# Altium schematic symbol library kmilo17pet-NSC_Interface.SchLib: 1433 symbols (part 17 of 51)
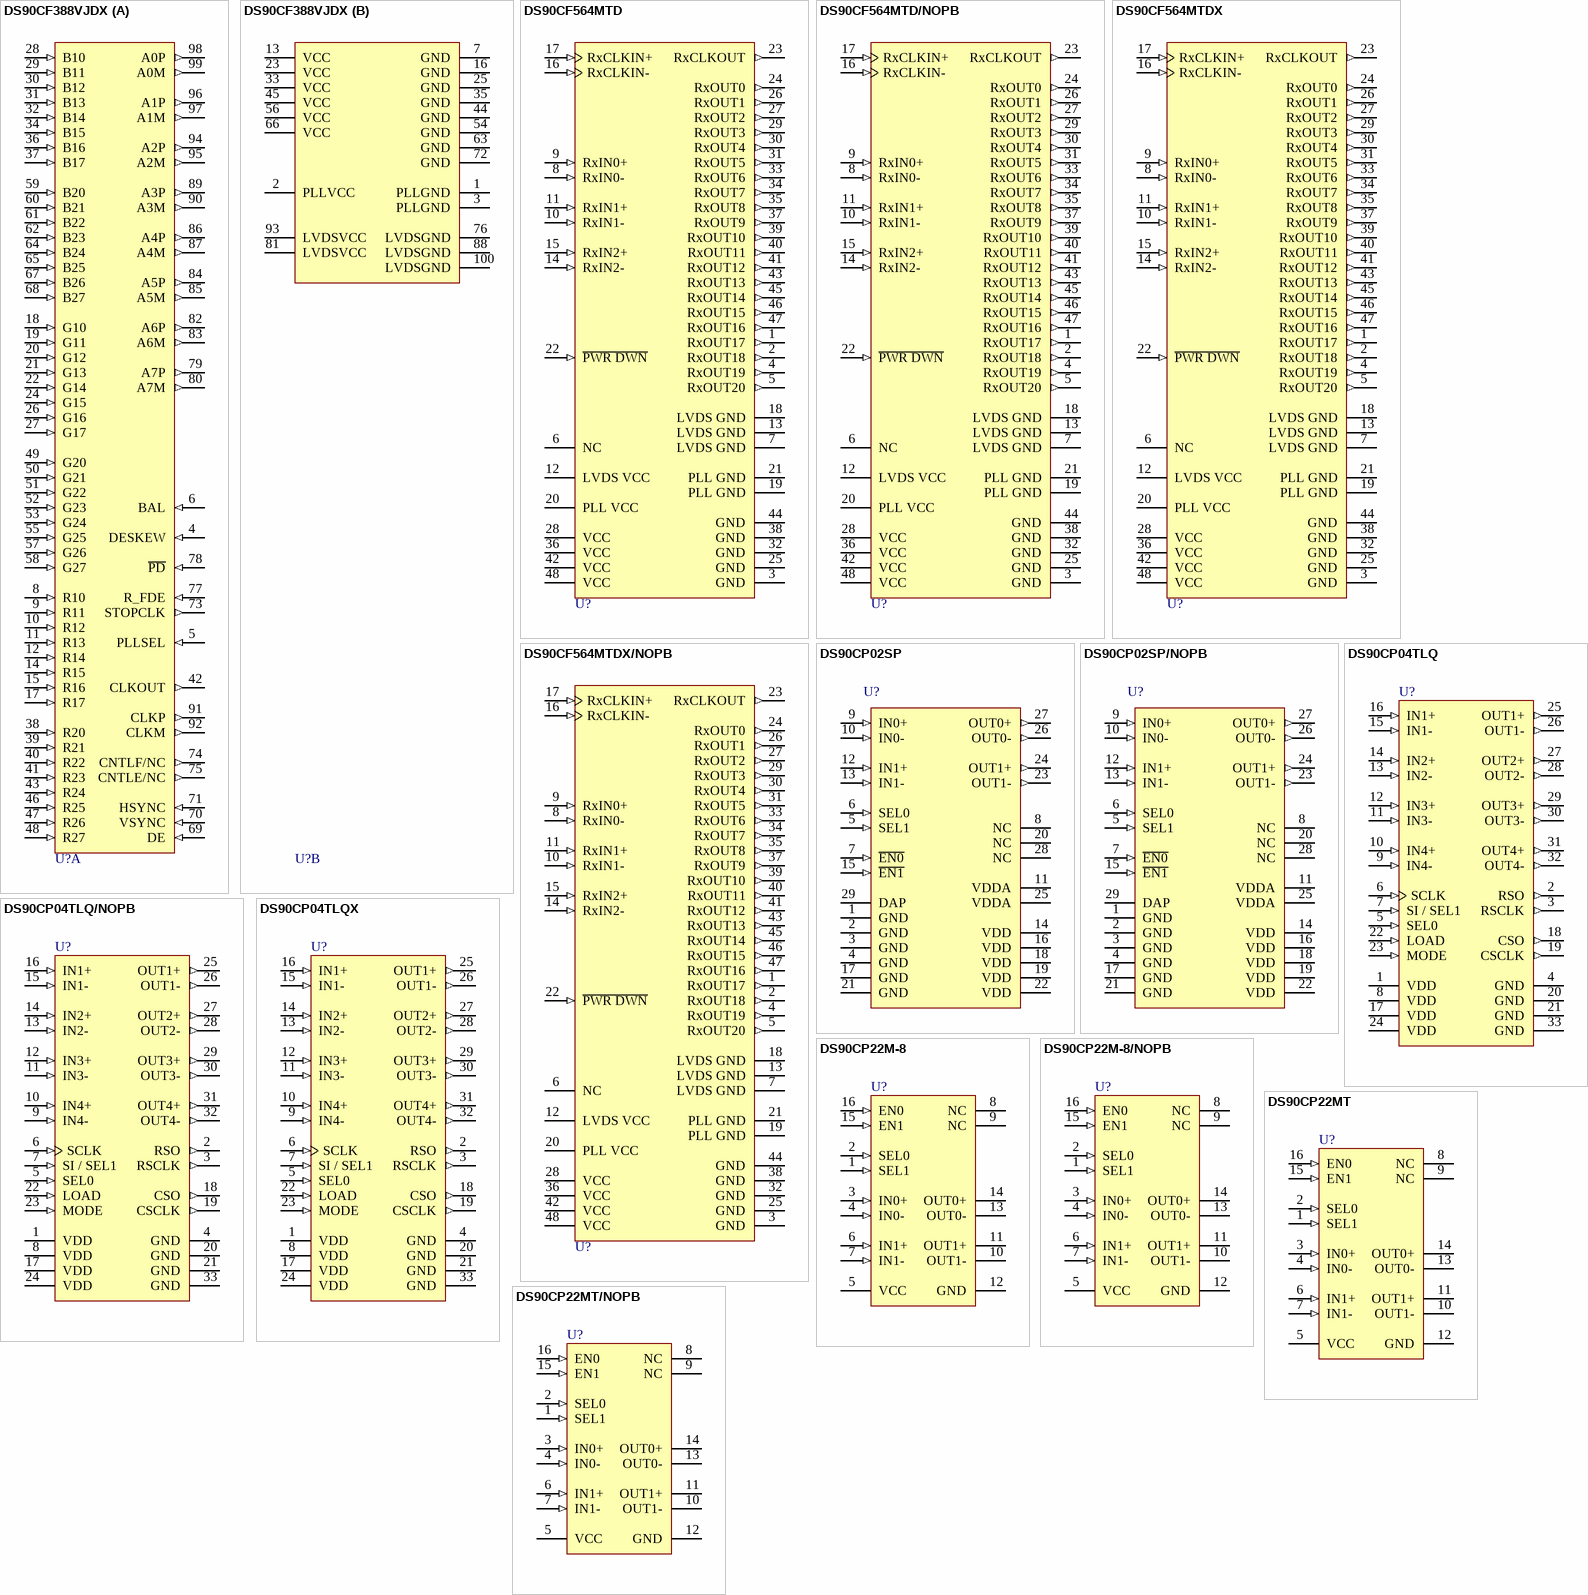
[diagram p140: symbols DS90CF388VJDX to DS90CP22MT/NOPB]

## DS90CP04TLQ/NOPB
designator U?
1.5 Gbps 4x4 LVDS Crosspoint Switch, 32-pin LLP, Pb-Free; PartNumber: DS90CP04TLQ/NOPB; Manufacturer: National Semiconductor; PackageTopMarking: NS*UZXYTTE#*90CP04T; PowerWise: N; CompType: Interface IC; High-Reliability: Y; DatasheetVersion: Dec-2007; PackageVersion: revA, Feb-2001; PackageReference: LQA32A; PackageDescription: LLP, Plastic, Quad, 6 x 6 x 0.8mm Body, 32 Lead, 0.5mm Pitch; RoHS: Y; PinCount: 32; ComponentLink1Description: Manufacturer URL; ComponentLink1URL: http://www.national.com/; ComponentLink2Description: DS90CP04 Datasheet; ComponentLink2URL: http://www.national.com/ds/DS/DS90CP04.pdf; ComponentLink3Description: DS90CP04 Web Page; ComponentLink3URL: http://www.national.com/pf/DS/DS90CP04.html; ComponentLink4Description: LQA32A Package Page; ComponentLink4URL: http://www.national.com/packaging/folders/lqa32a.html
footprint LQA32A (PQFN, 32-Leads, Body 6x6mm, Pitch 0.5mm, Thermal Pad 4.3x4.3mm, NSC Recommended)
pins: 1 VDD (power), 2 RSO (out), 3 RSCLK (out), 4 GND (power), 5 SEL0 (in), 6 SCLK (in), 7 SI / SEL1 (in), 8 VDD (power), 9 IN4- (in), 10 IN4+ (in), 11 IN3- (in), 12 IN3+ (in), 13 IN2- (in), 14 IN2+ (in), 15 IN1- (in), 16 IN1+ (in), 17 VDD (power), 18 CSO (out), 19 CSCLK (out), 20 GND (power), 21 GND (power), 22 LOAD (in), 23 MODE (in), 24 VDD (power), 25 OUT1+ (out), 26 OUT1- (out), 27 OUT2+ (out), 28 OUT2- (out), 29 OUT3+ (out), 30 OUT3- (out), 31 OUT4+ (out), 32 OUT4- (out), 33 GND (power)

## DS90CP04TLQX
designator U?
1.5 Gbps 4x4 LVDS Crosspoint Switch, 32-pin LLP; PartNumber: DS90CP04TLQX; Manufacturer: National Semiconductor; PackageTopMarking: NS*UZXYTTE#*90CP04T; PowerWise: N; CompType: Interface IC; High-Reliability: Y; DatasheetVersion: Dec-2007; PackageVersion: revA, Feb-2001; PackageReference: LQA32A; PackageDescription: LLP, Plastic, Quad, 6 x 6 x 0.8mm Body, 32 Lead, 0.5mm Pitch; RoHS: N; PinCount: 32; ComponentLink1Description: Manufacturer URL; ComponentLink1URL: http://www.national.com/; ComponentLink2Description: DS90CP04 Datasheet; ComponentLink2URL: http://www.national.com/ds/DS/DS90CP04.pdf; ComponentLink3Description: DS90CP04 Web Page; ComponentLink3URL: http://www.national.com/pf/DS/DS90CP04.html; ComponentLink4Description: LQA32A Package Page; ComponentLink4URL: http://www.national.com/packaging/folders/lqa32a.html
footprint LQA32A (PQFN, 32-Leads, Body 6x6mm, Pitch 0.5mm, Thermal Pad 4.3x4.3mm, NSC Recommended)
pins: 1 VDD (power), 2 RSO (out), 3 RSCLK (out), 4 GND (power), 5 SEL0 (in), 6 SCLK (in), 7 SI / SEL1 (in), 8 VDD (power), 9 IN4- (in), 10 IN4+ (in), 11 IN3- (in), 12 IN3+ (in), 13 IN2- (in), 14 IN2+ (in), 15 IN1- (in), 16 IN1+ (in), 17 VDD (power), 18 CSO (out), 19 CSCLK (out), 20 GND (power), 21 GND (power), 22 LOAD (in), 23 MODE (in), 24 VDD (power), 25 OUT1+ (out), 26 OUT1- (out), 27 OUT2+ (out), 28 OUT2- (out), 29 OUT3+ (out), 30 OUT3- (out), 31 OUT4+ (out), 32 OUT4- (out), 33 GND (power)

## DS90CP22M-8
designator U?
800 Mbps 2x2 LVDS Crosspoint Switch, 16-pin Narrow SOIC; PartNumber: DS90CP22M-8; Manufacturer: National Semiconductor; PackageTopMarking: NSUZXYTTE#*DS90CP22M*-8; PowerWise: N; CompType: Interface IC; High-Reliability: Y; DatasheetVersion: Dec-2007; PackageVersion: revJ, Aug-1995; PackageReference: M16A; PackageDescription: Molded Package, SO, .150in Wide, 16 Lead; RoHS: N; PinCount: 16; Code_JEDEC: MS-012-AC; Code_IPC: SOIC127P600-16; ComponentLink1Description: Manufacturer URL; ComponentLink1URL: http://www.national.com/; ComponentLink2Description: DS90CP22 Datasheet; ComponentLink2URL: http://www.national.com/ds/DS/DS90CP22.pdf; ComponentLink3Description: DS90CP22 Web Page; ComponentLink3URL: http://www.national.com/pf/DS/DS90CP22.html; ComponentLink4Description: M16A Package Page; ComponentLink4URL: http://www.national.com/packaging/folders/m16a.html
footprint M16A_N (SOIC, 16-Leads, Body 9.9x3.9mm, Pitch 1.27mm, IPC Medium Density)
footprint M16A_L (SOIC, 16-Leads, Body 9.9x3.9mm, Pitch 1.27mm, IPC High Density)
footprint M16A_M (SOIC, 16-Leads, Body 9.9x3.9mm, Pitch 1.27mm, IPC Low Density)
pins: 1 SEL1 (in), 2 SEL0 (in), 3 IN0+ (in), 4 IN0- (in), 5 VCC (power), 6 IN1+ (in), 7 IN1- (in), 8 NC, 9 NC, 10 OUT1- (hiz), 11 OUT1+ (hiz), 12 GND (power), 13 OUT0- (hiz), 14 OUT0+ (hiz), 15 EN1 (in), 16 EN0 (in)

## DS90CP22M-8/NOPB
designator U?
800 Mbps 2x2 LVDS Crosspoint Switch, 16-pin Narrow SOIC, Pb-Free; PartNumber: DS90CP22M-8/NOPB; Manufacturer: National Semiconductor; PackageTopMarking: NSUZXYTTE#*DS90CP22M*-8; PowerWise: N; CompType: Interface IC; High-Reliability: Y; DatasheetVersion: Dec-2007; PackageVersion: revJ, Aug-1995; PackageReference: M16A; PackageDescription: Molded Package, SO, .150in Wide, 16 Lead; RoHS: Y; PinCount: 16; Code_JEDEC: MS-012-AC; Code_IPC: SOIC127P600-16; ComponentLink1Description: Manufacturer URL; ComponentLink1URL: http://www.national.com/; ComponentLink2Description: DS90CP22 Datasheet; ComponentLink2URL: http://www.national.com/ds/DS/DS90CP22.pdf; ComponentLink3Description: DS90CP22 Web Page; ComponentLink3URL: http://www.national.com/pf/DS/DS90CP22.html; ComponentLink4Description: M16A Package Page; ComponentLink4URL: http://www.national.com/packaging/folders/m16a.html
footprint M16A_N (SOIC, 16-Leads, Body 9.9x3.9mm, Pitch 1.27mm, IPC Medium Density)
footprint M16A_L (SOIC, 16-Leads, Body 9.9x3.9mm, Pitch 1.27mm, IPC High Density)
footprint M16A_M (SOIC, 16-Leads, Body 9.9x3.9mm, Pitch 1.27mm, IPC Low Density)
pins: 1 SEL1 (in), 2 SEL0 (in), 3 IN0+ (in), 4 IN0- (in), 5 VCC (power), 6 IN1+ (in), 7 IN1- (in), 8 NC, 9 NC, 10 OUT1- (hiz), 11 OUT1+ (hiz), 12 GND (power), 13 OUT0- (hiz), 14 OUT0+ (hiz), 15 EN1 (in), 16 EN0 (in)

## DS90CP22MT
designator U?
800 Mbps 2x2 LVDS Crosspoint Switch, 16-pin TSSOP; PartNumber: DS90CP22MT; Manufacturer: National Semiconductor; PackageTopMarking: NSZXYTT*DS90CP*22MT; PowerWise: N; CompType: Interface IC; High-Reliability: Y; DatasheetVersion: Dec-2007; PackageVersion: revD, Jun-2003; PackageReference: MTC16; PackageDescription: Molded TSSOP, Jedec, 5 x 4.4 x 0.9mm Body, 16 Lead, 0.65mm Pitch; RoHS: N; PinCount: 16; Code_JEDEC: MO-153-AB; ComponentLink1Description: Manufacturer URL; ComponentLink1URL: http://www.national.com/; ComponentLink2Description: DS90CP22 Datasheet; ComponentLink2URL: http://www.national.com/ds/DS/DS90CP22.pdf; ComponentLink3Description: DS90CP22 Web Page; ComponentLink3URL: http://www.national.com/pf/DS/DS90CP22.html; ComponentLink4Description: MTC16 Package Page; ComponentLink4URL: http://www.national.com/packaging/folders/mtc16.html
footprint MTC16_N (TSOP, 16-Leads, Body 5x4.4mm, Pitch 0.65mm, IPC Medium Density)
footprint MTC16_L (TSOP, 16-Leads, Body 5x4.4mm, Pitch 0.65mm, IPC High Density)
footprint MTC16_M (TSOP, 16-Leads, Body 5x4.4mm, Pitch 0.65mm, IPC Low Density)
pins: 1 SEL1 (in), 2 SEL0 (in), 3 IN0+ (in), 4 IN0- (in), 5 VCC (power), 6 IN1+ (in), 7 IN1- (in), 8 NC, 9 NC, 10 OUT1- (hiz), 11 OUT1+ (hiz), 12 GND (power), 13 OUT0- (hiz), 14 OUT0+ (hiz), 15 EN1 (in), 16 EN0 (in)

## DS90CP22MT/NOPB
designator U?
800 Mbps 2x2 LVDS Crosspoint Switch, 16-pin TSSOP, Pb-Free; PartNumber: DS90CP22MT/NOPB; Manufacturer: National Semiconductor; PackageTopMarking: NSZXYTT*DS90CP*22MT; PowerWise: N; CompType: Interface IC; High-Reliability: Y; DatasheetVersion: Dec-2007; PackageVersion: revD, Jun-2003; PackageReference: MTC16; PackageDescription: Molded TSSOP, Jedec, 5 x 4.4 x 0.9mm Body, 16 Lead, 0.65mm Pitch; RoHS: Y; PinCount: 16; Code_JEDEC: MO-153-AB; ComponentLink1Description: Manufacturer URL; ComponentLink1URL: http://www.national.com/; ComponentLink2Description: DS90CP22 Datasheet; ComponentLink2URL: http://www.national.com/ds/DS/DS90CP22.pdf; ComponentLink3Description: DS90CP22 Web Page; ComponentLink3URL: http://www.national.com/pf/DS/DS90CP22.html; ComponentLink4Description: MTC16 Package Page; ComponentLink4URL: http://www.national.com/packaging/folders/mtc16.html
footprint MTC16_N (TSOP, 16-Leads, Body 5x4.4mm, Pitch 0.65mm, IPC Medium Density)
footprint MTC16_L (TSOP, 16-Leads, Body 5x4.4mm, Pitch 0.65mm, IPC High Density)
footprint MTC16_M (TSOP, 16-Leads, Body 5x4.4mm, Pitch 0.65mm, IPC Low Density)
pins: 1 SEL1 (in), 2 SEL0 (in), 3 IN0+ (in), 4 IN0- (in), 5 VCC (power), 6 IN1+ (in), 7 IN1- (in), 8 NC, 9 NC, 10 OUT1- (hiz), 11 OUT1+ (hiz), 12 GND (power), 13 OUT0- (hiz), 14 OUT0+ (hiz), 15 EN1 (in), 16 EN0 (in)

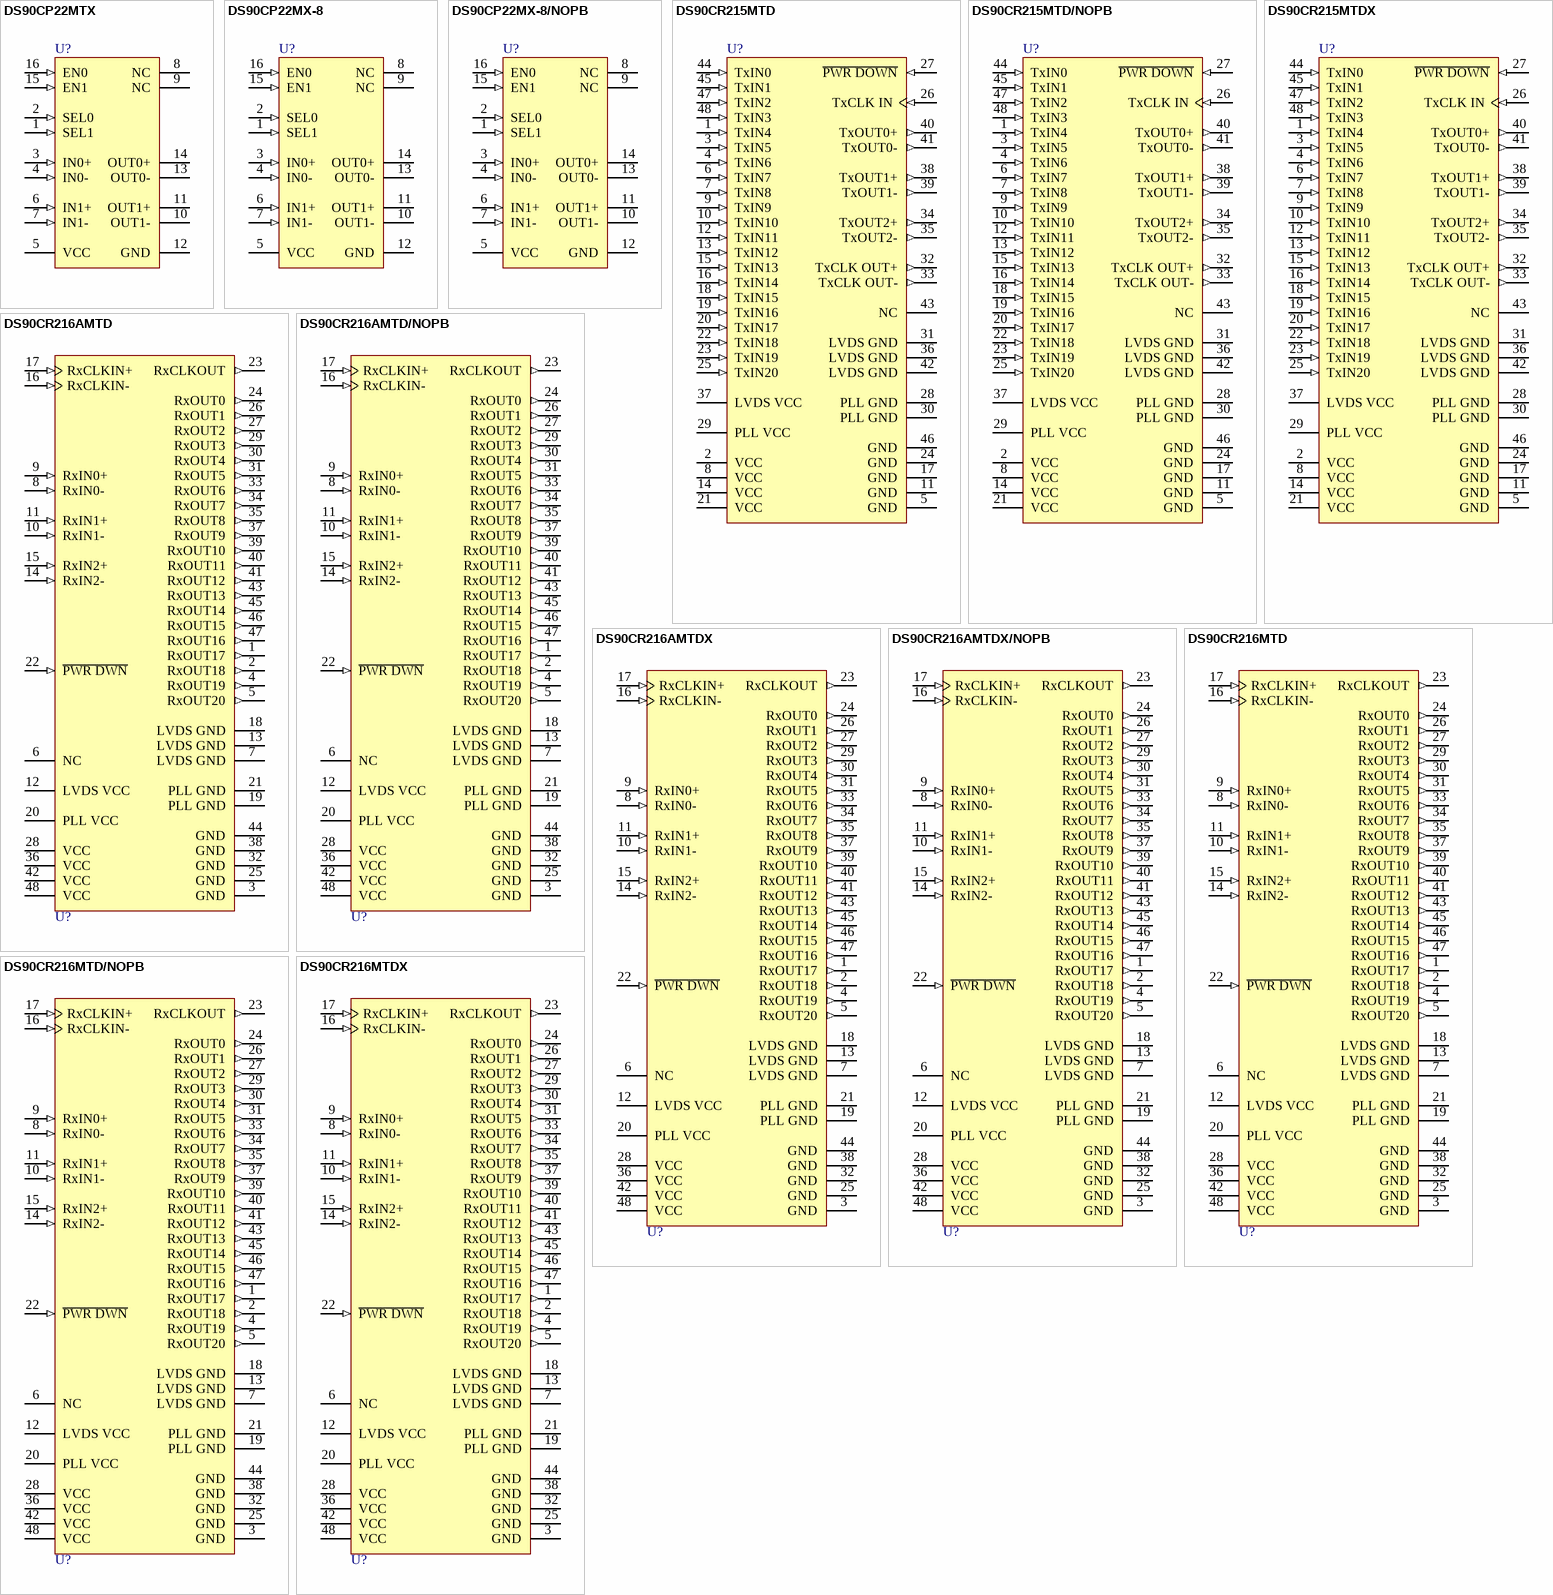
[diagram p44: symbols DS90CP22MTX to DS90CR216MTDX]

## DS90CP22MTX
designator U?
800 Mbps 2x2 LVDS Crosspoint Switch, 16-pin TSSOP; PartNumber: DS90CP22MTX; Manufacturer: National Semiconductor; PackageTopMarking: NSZXYTT*DS90CP*22MT; PowerWise: N; CompType: Interface IC; High-Reliability: Y; DatasheetVersion: Dec-2007; PackageVersion: revD, Jun-2003; PackageReference: MTC16; PackageDescription: Molded TSSOP, Jedec, 5 x 4.4 x 0.9mm Body, 16 Lead, 0.65mm Pitch; RoHS: N; PinCount: 16; Code_JEDEC: MO-153-AB; ComponentLink1Description: Manufacturer URL; ComponentLink1URL: http://www.national.com/; ComponentLink2Description: DS90CP22 Datasheet; ComponentLink2URL: http://www.national.com/ds/DS/DS90CP22.pdf; ComponentLink3Description: DS90CP22 Web Page; ComponentLink3URL: http://www.national.com/pf/DS/DS90CP22.html; ComponentLink4Description: MTC16 Package Page; ComponentLink4URL: http://www.national.com/packaging/folders/mtc16.html
footprint MTC16_N (TSOP, 16-Leads, Body 5x4.4mm, Pitch 0.65mm, IPC Medium Density)
footprint MTC16_L (TSOP, 16-Leads, Body 5x4.4mm, Pitch 0.65mm, IPC High Density)
footprint MTC16_M (TSOP, 16-Leads, Body 5x4.4mm, Pitch 0.65mm, IPC Low Density)
pins: 1 SEL1 (in), 2 SEL0 (in), 3 IN0+ (in), 4 IN0- (in), 5 VCC (power), 6 IN1+ (in), 7 IN1- (in), 8 NC, 9 NC, 10 OUT1- (hiz), 11 OUT1+ (hiz), 12 GND (power), 13 OUT0- (hiz), 14 OUT0+ (hiz), 15 EN1 (in), 16 EN0 (in)

## DS90CP22MX-8
designator U?
800 Mbps 2x2 LVDS Crosspoint Switch, 16-pin Narrow SOIC; PartNumber: DS90CP22MX-8; Manufacturer: National Semiconductor; PackageTopMarking: NSUZXYTTE#*DS90CP22M*-8; PowerWise: N; CompType: Interface IC; High-Reliability: Y; DatasheetVersion: Dec-2007; PackageVersion: revJ, Aug-1995; PackageReference: M16A; PackageDescription: Molded Package, SO, .150in Wide, 16 Lead; RoHS: N; PinCount: 16; Code_JEDEC: MS-012-AC; Code_IPC: SOIC127P600-16; ComponentLink1Description: Manufacturer URL; ComponentLink1URL: http://www.national.com/; ComponentLink2Description: DS90CP22 Datasheet; ComponentLink2URL: http://www.national.com/ds/DS/DS90CP22.pdf; ComponentLink3Description: DS90CP22 Web Page; ComponentLink3URL: http://www.national.com/pf/DS/DS90CP22.html; ComponentLink4Description: M16A Package Page; ComponentLink4URL: http://www.national.com/packaging/folders/m16a.html
footprint M16A_N (SOIC, 16-Leads, Body 9.9x3.9mm, Pitch 1.27mm, IPC Medium Density)
footprint M16A_L (SOIC, 16-Leads, Body 9.9x3.9mm, Pitch 1.27mm, IPC High Density)
footprint M16A_M (SOIC, 16-Leads, Body 9.9x3.9mm, Pitch 1.27mm, IPC Low Density)
pins: 1 SEL1 (in), 2 SEL0 (in), 3 IN0+ (in), 4 IN0- (in), 5 VCC (power), 6 IN1+ (in), 7 IN1- (in), 8 NC, 9 NC, 10 OUT1- (hiz), 11 OUT1+ (hiz), 12 GND (power), 13 OUT0- (hiz), 14 OUT0+ (hiz), 15 EN1 (in), 16 EN0 (in)

## DS90CP22MX-8/NOPB
designator U?
800 Mbps 2x2 LVDS Crosspoint Switch, 16-pin Narrow SOIC, Pb-Free; PartNumber: DS90CP22MX-8/NOPB; Manufacturer: National Semiconductor; PackageTopMarking: NSUZXYTTE#*DS90CP22M*-8; PowerWise: N; CompType: Interface IC; High-Reliability: Y; DatasheetVersion: Dec-2007; PackageVersion: revJ, Aug-1995; PackageReference: M16A; PackageDescription: Molded Package, SO, .150in Wide, 16 Lead; RoHS: Y; PinCount: 16; Code_JEDEC: MS-012-AC; Code_IPC: SOIC127P600-16; ComponentLink1Description: Manufacturer URL; ComponentLink1URL: http://www.national.com/; ComponentLink2Description: DS90CP22 Datasheet; ComponentLink2URL: http://www.national.com/ds/DS/DS90CP22.pdf; ComponentLink3Description: DS90CP22 Web Page; ComponentLink3URL: http://www.national.com/pf/DS/DS90CP22.html; ComponentLink4Description: M16A Package Page; ComponentLink4URL: http://www.national.com/packaging/folders/m16a.html
footprint M16A_N (SOIC, 16-Leads, Body 9.9x3.9mm, Pitch 1.27mm, IPC Medium Density)
footprint M16A_L (SOIC, 16-Leads, Body 9.9x3.9mm, Pitch 1.27mm, IPC High Density)
footprint M16A_M (SOIC, 16-Leads, Body 9.9x3.9mm, Pitch 1.27mm, IPC Low Density)
pins: 1 SEL1 (in), 2 SEL0 (in), 3 IN0+ (in), 4 IN0- (in), 5 VCC (power), 6 IN1+ (in), 7 IN1- (in), 8 NC, 9 NC, 10 OUT1- (hiz), 11 OUT1+ (hiz), 12 GND (power), 13 OUT0- (hiz), 14 OUT0+ (hiz), 15 EN1 (in), 16 EN0 (in)

## DS90CR215MTD
designator U?
+3.3V Rising Edge Data Strobe LVDS 21-Bit Channel Link - 66 MHz, 48-pin TSSOP; PartNumber: DS90CR215MTD; Manufacturer: National Semiconductor; PackageTopMarking: NS2ZXYTTE#*DS90CR215MTD*BBBBB; PowerWise: N; CompType: Interface IC; High-Reliability: Y; DatasheetVersion: Jun-2009; PackageVersion: revE, Apr-2003; PackageReference: MTD48; PackageDescription: Molded TSSOP, Jedec, 12.5 x 6.1 x 0.9mm Body, 48 Lead, 0.50mm Pitch; RoHS: N; PinCount: 48; Code_JEDEC: MO-153-ED; ComponentLink1Description: Manufacturer URL; ComponentLink1URL: http://www.national.com/; ComponentLink2Description: DS90CR215 Datasheet; ComponentLink2URL: http://www.national.com/ds/DS/DS90CR215.pdf; ComponentLink3Description: DS90CR215 Web Page; ComponentLink3URL: http://www.national.com/pf/DS/DS90CR215.html; ComponentLink4Description: MTD48 Package Page; ComponentLink4URL: http://www.national.com/packaging/folders/mtd48.html
footprint MTD48_N (TSSOP, 48-Leads, Body 12.5x6.1mm, Pitch 0.5mm, IPC Medium Density)
footprint MTD48_L (TSSOP, 48-Leads, Body 12.5x6.1mm, Pitch 0.5mm, IPC High Density)
footprint MTD48_M (TSSOP, 48-Leads, Body 12.5x6.1mm, Pitch 0.5mm, IPC Low Density)
pins: 1 TxIN4 (in), 2 VCC (power), 3 TxIN5 (in), 4 TxIN6 (in), 5 GND (power), 6 TxIN7 (in), 7 TxIN8 (in), 8 VCC (power), 9 TxIN9 (in), 10 TxIN10 (in), 11 GND (power), 12 TxIN11 (in), 13 TxIN12 (in), 14 VCC (power), 15 TxIN13 (in), 16 TxIN14 (in), 17 GND (power), 18 TxIN15 (in), 19 TxIN16 (in), 20 TxIN17 (in), 21 VCC (power), 22 TxIN18 (in), 23 TxIN19 (in), 24 GND (power), 25 TxIN20 (in), 26 TxCLK IN (in), 27 ~{PWR DOWN} (in), 28 PLL GND (power), 29 PLL VCC (power), 30 PLL GND (power), 31 LVDS GND (power), 32 TxCLK OUT+ (out), 33 TxCLK OUT- (out), 34 TxOUT2+ (out), 35 TxOUT2- (out), 36 LVDS GND (power), 37 LVDS VCC (power), 38 TxOUT1+ (out), 39 TxOUT1- (out), 40 TxOUT0+ (out), 41 TxOUT0- (out), 42 LVDS GND (power), 43 NC, 44 TxIN0 (in), 45 TxIN1 (in), 46 GND (power), 47 TxIN2 (in), 48 TxIN3 (in)

## DS90CR215MTD/NOPB
designator U?
+3.3V Rising Edge Data Strobe LVDS 21-Bit Channel Link - 66 MHz, 48-pin TSSOP, Pb-Free; PartNumber: DS90CR215MTD/NOPB; Manufacturer: National Semiconductor; PackageTopMarking: NS2ZXYTTE#*DS90CR215MTD*BBBBB; PowerWise: N; CompType: Interface IC; High-Reliability: Y; DatasheetVersion: Jun-2009; PackageVersion: revE, Apr-2003; PackageReference: MTD48; PackageDescription: Molded TSSOP, Jedec, 12.5 x 6.1 x 0.9mm Body, 48 Lead, 0.50mm Pitch; RoHS: Y; PinCount: 48; Code_JEDEC: MO-153-ED; ComponentLink1Description: Manufacturer URL; ComponentLink1URL: http://www.national.com/; ComponentLink2Description: DS90CR215 Datasheet; ComponentLink2URL: http://www.national.com/ds/DS/DS90CR215.pdf; ComponentLink3Description: DS90CR215 Web Page; ComponentLink3URL: http://www.national.com/pf/DS/DS90CR215.html; ComponentLink4Description: MTD48 Package Page; ComponentLink4URL: http://www.national.com/packaging/folders/mtd48.html
footprint MTD48_N (TSSOP, 48-Leads, Body 12.5x6.1mm, Pitch 0.5mm, IPC Medium Density)
footprint MTD48_L (TSSOP, 48-Leads, Body 12.5x6.1mm, Pitch 0.5mm, IPC High Density)
footprint MTD48_M (TSSOP, 48-Leads, Body 12.5x6.1mm, Pitch 0.5mm, IPC Low Density)
pins: 1 TxIN4 (in), 2 VCC (power), 3 TxIN5 (in), 4 TxIN6 (in), 5 GND (power), 6 TxIN7 (in), 7 TxIN8 (in), 8 VCC (power), 9 TxIN9 (in), 10 TxIN10 (in), 11 GND (power), 12 TxIN11 (in), 13 TxIN12 (in), 14 VCC (power), 15 TxIN13 (in), 16 TxIN14 (in), 17 GND (power), 18 TxIN15 (in), 19 TxIN16 (in), 20 TxIN17 (in), 21 VCC (power), 22 TxIN18 (in), 23 TxIN19 (in), 24 GND (power), 25 TxIN20 (in), 26 TxCLK IN (in), 27 ~{PWR DOWN} (in), 28 PLL GND (power), 29 PLL VCC (power), 30 PLL GND (power), 31 LVDS GND (power), 32 TxCLK OUT+ (out), 33 TxCLK OUT- (out), 34 TxOUT2+ (out), 35 TxOUT2- (out), 36 LVDS GND (power), 37 LVDS VCC (power), 38 TxOUT1+ (out), 39 TxOUT1- (out), 40 TxOUT0+ (out), 41 TxOUT0- (out), 42 LVDS GND (power), 43 NC, 44 TxIN0 (in), 45 TxIN1 (in), 46 GND (power), 47 TxIN2 (in), 48 TxIN3 (in)

## DS90CR215MTDX
designator U?
+3.3V Rising Edge Data Strobe LVDS 21-Bit Channel Link - 66 MHz, 48-pin TSSOP; PartNumber: DS90CR215MTDX; Manufacturer: National Semiconductor; PackageTopMarking: NS2ZXYTTE#*DS90CR215MTD*BBBBB; PowerWise: N; CompType: Interface IC; High-Reliability: Y; DatasheetVersion: Jun-2009; PackageVersion: revE, Apr-2003; PackageReference: MTD48; PackageDescription: Molded TSSOP, Jedec, 12.5 x 6.1 x 0.9mm Body, 48 Lead, 0.50mm Pitch; RoHS: N; PinCount: 48; Code_JEDEC: MO-153-ED; ComponentLink1Description: Manufacturer URL; ComponentLink1URL: http://www.national.com/; ComponentLink2Description: DS90CR215 Datasheet; ComponentLink2URL: http://www.national.com/ds/DS/DS90CR215.pdf; ComponentLink3Description: DS90CR215 Web Page; ComponentLink3URL: http://www.national.com/pf/DS/DS90CR215.html; ComponentLink4Description: MTD48 Package Page; ComponentLink4URL: http://www.national.com/packaging/folders/mtd48.html
footprint MTD48_N (TSSOP, 48-Leads, Body 12.5x6.1mm, Pitch 0.5mm, IPC Medium Density)
footprint MTD48_L (TSSOP, 48-Leads, Body 12.5x6.1mm, Pitch 0.5mm, IPC High Density)
footprint MTD48_M (TSSOP, 48-Leads, Body 12.5x6.1mm, Pitch 0.5mm, IPC Low Density)
pins: 1 TxIN4 (in), 2 VCC (power), 3 TxIN5 (in), 4 TxIN6 (in), 5 GND (power), 6 TxIN7 (in), 7 TxIN8 (in), 8 VCC (power), 9 TxIN9 (in), 10 TxIN10 (in), 11 GND (power), 12 TxIN11 (in), 13 TxIN12 (in), 14 VCC (power), 15 TxIN13 (in), 16 TxIN14 (in), 17 GND (power), 18 TxIN15 (in), 19 TxIN16 (in), 20 TxIN17 (in), 21 VCC (power), 22 TxIN18 (in), 23 TxIN19 (in), 24 GND (power), 25 TxIN20 (in), 26 TxCLK IN (in), 27 ~{PWR DOWN} (in), 28 PLL GND (power), 29 PLL VCC (power), 30 PLL GND (power), 31 LVDS GND (power), 32 TxCLK OUT+ (out), 33 TxCLK OUT- (out), 34 TxOUT2+ (out), 35 TxOUT2- (out), 36 LVDS GND (power), 37 LVDS VCC (power), 38 TxOUT1+ (out), 39 TxOUT1- (out), 40 TxOUT0+ (out), 41 TxOUT0- (out), 42 LVDS GND (power), 43 NC, 44 TxIN0 (in), 45 TxIN1 (in), 46 GND (power), 47 TxIN2 (in), 48 TxIN3 (in)

## DS90CR216AMTD
designator U?
+3.3V Rising Edge Data Strobe LVDS Receiver 21-Bit Channel Link - 66 MHz, 48-pin TSSOP; PartNumber: DS90CR216AMTD; Manufacturer: National Semiconductor; PackageTopMarking: NS2ZXYTTE#*DS90CR216AMTD*BBBBB; PowerWise: N; CompType: Interface IC; High-Reliability: Y; DatasheetVersion: May-2009; PackageVersion: revE, Apr-2003; PackageReference: MTD48; PackageDescription: Molded TSSOP, Jedec, 12.5 x 6.1 x 0.9mm Body, 48 Lead, 0.50mm Pitch; RoHS: N; PinCount: 48; Code_JEDEC: MO-153-ED; ComponentLink1Description: Manufacturer URL; ComponentLink1URL: http://www.national.com/; ComponentLink2Description: DS90CR216A Datasheet; ComponentLink2URL: http://www.national.com/ds/DS/DS90CR216A.pdf; ComponentLink3Description: DS90CR216A Web Page; ComponentLink3URL: http://www.national.com/pf/DS/DS90CR216A.html; ComponentLink4Description: MTD48 Package Page; ComponentLink4URL: http://www.national.com/packaging/folders/mtd48.html
footprint MTD48_N (TSSOP, 48-Leads, Body 12.5x6.1mm, Pitch 0.5mm, IPC Medium Density)
footprint MTD48_L (TSSOP, 48-Leads, Body 12.5x6.1mm, Pitch 0.5mm, IPC High Density)
footprint MTD48_M (TSSOP, 48-Leads, Body 12.5x6.1mm, Pitch 0.5mm, IPC Low Density)
pins: 1 RxOUT17 (out), 2 RxOUT18 (out), 3 GND (power), 4 RxOUT19 (out), 5 RxOUT20 (out), 6 NC, 7 LVDS GND (power), 8 RxIN0- (in), 9 RxIN0+ (in), 10 RxIN1- (in), 11 RxIN1+ (in), 12 LVDS VCC (power), 13 LVDS GND (power), 14 RxIN2- (in), 15 RxIN2+ (in), 16 RxCLKIN- (in), 17 RxCLKIN+ (in), 18 LVDS GND (power), 19 PLL GND (power), 20 PLL VCC (power), 21 PLL GND (power), 22 ~{PWR DWN} (in), 23 RxCLKOUT (out), 24 RxOUT0 (out), 25 GND (power), 26 RxOUT1 (out), 27 RxOUT2 (out), 28 VCC (power), 29 RxOUT3 (out), 30 RxOUT4 (out), 31 RxOUT5 (out), 32 GND (power), 33 RxOUT6 (out), 34 RxOUT7 (out), 35 RxOUT8 (out), 36 VCC (power), 37 RxOUT9 (out), 38 GND (power), 39 RxOUT10 (out), 40 RxOUT11 (out), 41 RxOUT12 (out), 42 VCC (power), 43 RxOUT13 (out), 44 GND (power), 45 RxOUT14 (out), 46 RxOUT15 (out), 47 RxOUT16 (out), 48 VCC (power)

## DS90CR216AMTD/NOPB
designator U?
+3.3V Rising Edge Data Strobe LVDS Receiver 21-Bit Channel Link - 66 MHz, 48-pin TSSOP, Pb-Free; PartNumber: DS90CR216AMTD/NOPB; Manufacturer: National Semiconductor; PackageTopMarking: NS2ZXYTTE#*DS90CR216AMTD*BBBBB; PowerWise: N; CompType: Interface IC; High-Reliability: Y; DatasheetVersion: May-2009; PackageVersion: revE, Apr-2003; PackageReference: MTD48; PackageDescription: Molded TSSOP, Jedec, 12.5 x 6.1 x 0.9mm Body, 48 Lead, 0.50mm Pitch; RoHS: Y; PinCount: 48; Code_JEDEC: MO-153-ED; ComponentLink1Description: Manufacturer URL; ComponentLink1URL: http://www.national.com/; ComponentLink2Description: DS90CR216A Datasheet; ComponentLink2URL: http://www.national.com/ds/DS/DS90CR216A.pdf; ComponentLink3Description: DS90CR216A Web Page; ComponentLink3URL: http://www.national.com/pf/DS/DS90CR216A.html; ComponentLink4Description: MTD48 Package Page; ComponentLink4URL: http://www.national.com/packaging/folders/mtd48.html
footprint MTD48_N (TSSOP, 48-Leads, Body 12.5x6.1mm, Pitch 0.5mm, IPC Medium Density)
footprint MTD48_L (TSSOP, 48-Leads, Body 12.5x6.1mm, Pitch 0.5mm, IPC High Density)
footprint MTD48_M (TSSOP, 48-Leads, Body 12.5x6.1mm, Pitch 0.5mm, IPC Low Density)
pins: 1 RxOUT17 (out), 2 RxOUT18 (out), 3 GND (power), 4 RxOUT19 (out), 5 RxOUT20 (out), 6 NC, 7 LVDS GND (power), 8 RxIN0- (in), 9 RxIN0+ (in), 10 RxIN1- (in), 11 RxIN1+ (in), 12 LVDS VCC (power), 13 LVDS GND (power), 14 RxIN2- (in), 15 RxIN2+ (in), 16 RxCLKIN- (in), 17 RxCLKIN+ (in), 18 LVDS GND (power), 19 PLL GND (power), 20 PLL VCC (power), 21 PLL GND (power), 22 ~{PWR DWN} (in), 23 RxCLKOUT (out), 24 RxOUT0 (out), 25 GND (power), 26 RxOUT1 (out), 27 RxOUT2 (out), 28 VCC (power), 29 RxOUT3 (out), 30 RxOUT4 (out), 31 RxOUT5 (out), 32 GND (power), 33 RxOUT6 (out), 34 RxOUT7 (out), 35 RxOUT8 (out), 36 VCC (power), 37 RxOUT9 (out), 38 GND (power), 39 RxOUT10 (out), 40 RxOUT11 (out), 41 RxOUT12 (out), 42 VCC (power), 43 RxOUT13 (out), 44 GND (power), 45 RxOUT14 (out), 46 RxOUT15 (out), 47 RxOUT16 (out), 48 VCC (power)

## DS90CR216AMTDX
designator U?
+3.3V Rising Edge Data Strobe LVDS Receiver 21-Bit Channel Link - 66 MHz, 48-pin TSSOP; PartNumber: DS90CR216AMTDX; Manufacturer: National Semiconductor; PackageTopMarking: NS2ZXYTTE#*DS90CR216AMTD*BBBBB; PowerWise: N; CompType: Interface IC; High-Reliability: Y; DatasheetVersion: May-2009; PackageVersion: revE, Apr-2003; PackageReference: MTD48; PackageDescription: Molded TSSOP, Jedec, 12.5 x 6.1 x 0.9mm Body, 48 Lead, 0.50mm Pitch; RoHS: N; PinCount: 48; Code_JEDEC: MO-153-ED; ComponentLink1Description: Manufacturer URL; ComponentLink1URL: http://www.national.com/; ComponentLink2Description: DS90CR216A Datasheet; ComponentLink2URL: http://www.national.com/ds/DS/DS90CR216A.pdf; ComponentLink3Description: DS90CR216A Web Page; ComponentLink3URL: http://www.national.com/pf/DS/DS90CR216A.html; ComponentLink4Description: MTD48 Package Page; ComponentLink4URL: http://www.national.com/packaging/folders/mtd48.html
footprint MTD48_N (TSSOP, 48-Leads, Body 12.5x6.1mm, Pitch 0.5mm, IPC Medium Density)
footprint MTD48_L (TSSOP, 48-Leads, Body 12.5x6.1mm, Pitch 0.5mm, IPC High Density)
footprint MTD48_M (TSSOP, 48-Leads, Body 12.5x6.1mm, Pitch 0.5mm, IPC Low Density)
pins: 1 RxOUT17 (out), 2 RxOUT18 (out), 3 GND (power), 4 RxOUT19 (out), 5 RxOUT20 (out), 6 NC, 7 LVDS GND (power), 8 RxIN0- (in), 9 RxIN0+ (in), 10 RxIN1- (in), 11 RxIN1+ (in), 12 LVDS VCC (power), 13 LVDS GND (power), 14 RxIN2- (in), 15 RxIN2+ (in), 16 RxCLKIN- (in), 17 RxCLKIN+ (in), 18 LVDS GND (power), 19 PLL GND (power), 20 PLL VCC (power), 21 PLL GND (power), 22 ~{PWR DWN} (in), 23 RxCLKOUT (out), 24 RxOUT0 (out), 25 GND (power), 26 RxOUT1 (out), 27 RxOUT2 (out), 28 VCC (power), 29 RxOUT3 (out), 30 RxOUT4 (out), 31 RxOUT5 (out), 32 GND (power), 33 RxOUT6 (out), 34 RxOUT7 (out), 35 RxOUT8 (out), 36 VCC (power), 37 RxOUT9 (out), 38 GND (power), 39 RxOUT10 (out), 40 RxOUT11 (out), 41 RxOUT12 (out), 42 VCC (power), 43 RxOUT13 (out), 44 GND (power), 45 RxOUT14 (out), 46 RxOUT15 (out), 47 RxOUT16 (out), 48 VCC (power)

## DS90CR216AMTDX/NOPB
designator U?
+3.3V Rising Edge Data Strobe LVDS Receiver 21-Bit Channel Link - 66 MHz, 48-pin TSSOP, Pb-Free; PartNumber: DS90CR216AMTDX/NOPB; Manufacturer: National Semiconductor; PackageTopMarking: NS2ZXYTTE#*DS90CR216AMTD*BBBBB; PowerWise: N; CompType: Interface IC; High-Reliability: Y; DatasheetVersion: May-2009; PackageVersion: revE, Apr-2003; PackageReference: MTD48; PackageDescription: Molded TSSOP, Jedec, 12.5 x 6.1 x 0.9mm Body, 48 Lead, 0.50mm Pitch; RoHS: Y; PinCount: 48; Code_JEDEC: MO-153-ED; ComponentLink1Description: Manufacturer URL; ComponentLink1URL: http://www.national.com/; ComponentLink2Description: DS90CR216A Datasheet; ComponentLink2URL: http://www.national.com/ds/DS/DS90CR216A.pdf; ComponentLink3Description: DS90CR216A Web Page; ComponentLink3URL: http://www.national.com/pf/DS/DS90CR216A.html; ComponentLink4Description: MTD48 Package Page; ComponentLink4URL: http://www.national.com/packaging/folders/mtd48.html
footprint MTD48_N (TSSOP, 48-Leads, Body 12.5x6.1mm, Pitch 0.5mm, IPC Medium Density)
footprint MTD48_L (TSSOP, 48-Leads, Body 12.5x6.1mm, Pitch 0.5mm, IPC High Density)
footprint MTD48_M (TSSOP, 48-Leads, Body 12.5x6.1mm, Pitch 0.5mm, IPC Low Density)
pins: 1 RxOUT17 (out), 2 RxOUT18 (out), 3 GND (power), 4 RxOUT19 (out), 5 RxOUT20 (out), 6 NC, 7 LVDS GND (power), 8 RxIN0- (in), 9 RxIN0+ (in), 10 RxIN1- (in), 11 RxIN1+ (in), 12 LVDS VCC (power), 13 LVDS GND (power), 14 RxIN2- (in), 15 RxIN2+ (in), 16 RxCLKIN- (in), 17 RxCLKIN+ (in), 18 LVDS GND (power), 19 PLL GND (power), 20 PLL VCC (power), 21 PLL GND (power), 22 ~{PWR DWN} (in), 23 RxCLKOUT (out), 24 RxOUT0 (out), 25 GND (power), 26 RxOUT1 (out), 27 RxOUT2 (out), 28 VCC (power), 29 RxOUT3 (out), 30 RxOUT4 (out), 31 RxOUT5 (out), 32 GND (power), 33 RxOUT6 (out), 34 RxOUT7 (out), 35 RxOUT8 (out), 36 VCC (power), 37 RxOUT9 (out), 38 GND (power), 39 RxOUT10 (out), 40 RxOUT11 (out), 41 RxOUT12 (out), 42 VCC (power), 43 RxOUT13 (out), 44 GND (power), 45 RxOUT14 (out), 46 RxOUT15 (out), 47 RxOUT16 (out), 48 VCC (power)

## DS90CR216MTD
designator U?
+3.3V Rising Edge Data Strobe LVDS 21-Bit Channel Link - 66 MHz, 48-pin TSSOP; PartNumber: DS90CR216MTD; Manufacturer: National Semiconductor; PackageTopMarking: NS2ZXYTTE#*DS90CR216MTD*BBBBB; PowerWise: N; CompType: Interface IC; High-Reliability: Y; DatasheetVersion: Jun-2009; PackageVersion: revE, Apr-2003; PackageReference: MTD48; PackageDescription: Molded TSSOP, Jedec, 12.5 x 6.1 x 0.9mm Body, 48 Lead, 0.50mm Pitch; RoHS: N; PinCount: 48; Code_JEDEC: MO-153-ED; ComponentLink1Description: Manufacturer URL; ComponentLink1URL: http://www.national.com/; ComponentLink2Description: DS90CR216 Datasheet; ComponentLink2URL: http://www.national.com/ds/DS/DS90CR216.pdf; ComponentLink3Description: DS90CR216 Web Page; ComponentLink3URL: http://www.national.com/pf/DS/DS90CR216.html; ComponentLink4Description: MTD48 Package Page; ComponentLink4URL: http://www.national.com/packaging/folders/mtd48.html
footprint MTD48_N (TSSOP, 48-Leads, Body 12.5x6.1mm, Pitch 0.5mm, IPC Medium Density)
footprint MTD48_L (TSSOP, 48-Leads, Body 12.5x6.1mm, Pitch 0.5mm, IPC High Density)
footprint MTD48_M (TSSOP, 48-Leads, Body 12.5x6.1mm, Pitch 0.5mm, IPC Low Density)
pins: 1 RxOUT17 (out), 2 RxOUT18 (out), 3 GND (power), 4 RxOUT19 (out), 5 RxOUT20 (out), 6 NC, 7 LVDS GND (power), 8 RxIN0- (in), 9 RxIN0+ (in), 10 RxIN1- (in), 11 RxIN1+ (in), 12 LVDS VCC (power), 13 LVDS GND (power), 14 RxIN2- (in), 15 RxIN2+ (in), 16 RxCLKIN- (in), 17 RxCLKIN+ (in), 18 LVDS GND (power), 19 PLL GND (power), 20 PLL VCC (power), 21 PLL GND (power), 22 ~{PWR DWN} (in), 23 RxCLKOUT (out), 24 RxOUT0 (out), 25 GND (power), 26 RxOUT1 (out), 27 RxOUT2 (out), 28 VCC (power), 29 RxOUT3 (out), 30 RxOUT4 (out), 31 RxOUT5 (out), 32 GND (power), 33 RxOUT6 (out), 34 RxOUT7 (out), 35 RxOUT8 (out), 36 VCC (power), 37 RxOUT9 (out), 38 GND (power), 39 RxOUT10 (out), 40 RxOUT11 (out), 41 RxOUT12 (out), 42 VCC (power), 43 RxOUT13 (out), 44 GND (power), 45 RxOUT14 (out), 46 RxOUT15 (out), 47 RxOUT16 (out), 48 VCC (power)

## DS90CR216MTD/NOPB
designator U?
+3.3V Rising Edge Data Strobe LVDS 21-Bit Channel Link - 66 MHz, 48 pin TSSOP; PartNumber: DS90CR216MTD/NOPB; Manufacturer: National Semiconductor; PackageTopMarking: NS2ZXYTTE#*DS90CR216MTD*BBBBB; PowerWise: N; CompType: Interface IC; High-Reliability: Y; DatasheetVersion: Jun-2009; PackageVersion: revE, Apr-2003; PackageReference: MTD48; PackageDescription: Molded TSSOP, Jedec, 12.5 x 6.1 x 0.9mm Body, 48 Lead, 0.50mm Pitch; RoHS: Y; PinCount: 48; Code_JEDEC: MO-153-ED; ComponentLink1Description: Manufacturer URL; ComponentLink1URL: http://www.national.com/; ComponentLink2Description: DS90CR216 Datasheet; ComponentLink2URL: http://www.national.com/ds/DS/DS90CR216.pdf; ComponentLink3Description: DS90CR216 Web Page; ComponentLink3URL: http://www.national.com/pf/DS/DS90CR216.html; ComponentLink4Description: MTD48 Package Page; ComponentLink4URL: http://www.national.com/packaging/folders/mtd48.html
footprint MTD48_N (TSSOP, 48-Leads, Body 12.5x6.1mm, Pitch 0.5mm, IPC Medium Density)
footprint MTD48_L (TSSOP, 48-Leads, Body 12.5x6.1mm, Pitch 0.5mm, IPC High Density)
footprint MTD48_M (TSSOP, 48-Leads, Body 12.5x6.1mm, Pitch 0.5mm, IPC Low Density)
pins: 1 RxOUT17 (out), 2 RxOUT18 (out), 3 GND (power), 4 RxOUT19 (out), 5 RxOUT20 (out), 6 NC, 7 LVDS GND (power), 8 RxIN0- (in), 9 RxIN0+ (in), 10 RxIN1- (in), 11 RxIN1+ (in), 12 LVDS VCC (power), 13 LVDS GND (power), 14 RxIN2- (in), 15 RxIN2+ (in), 16 RxCLKIN- (in), 17 RxCLKIN+ (in), 18 LVDS GND (power), 19 PLL GND (power), 20 PLL VCC (power), 21 PLL GND (power), 22 ~{PWR DWN} (in), 23 RxCLKOUT (out), 24 RxOUT0 (out), 25 GND (power), 26 RxOUT1 (out), 27 RxOUT2 (out), 28 VCC (power), 29 RxOUT3 (out), 30 RxOUT4 (out), 31 RxOUT5 (out), 32 GND (power), 33 RxOUT6 (out), 34 RxOUT7 (out), 35 RxOUT8 (out), 36 VCC (power), 37 RxOUT9 (out), 38 GND (power), 39 RxOUT10 (out), 40 RxOUT11 (out), 41 RxOUT12 (out), 42 VCC (power), 43 RxOUT13 (out), 44 GND (power), 45 RxOUT14 (out), 46 RxOUT15 (out), 47 RxOUT16 (out), 48 VCC (power)

## DS90CR216MTDX
designator U?
+3.3V Rising Edge Data Strobe LVDS 21-Bit Channel Link - 66 MHz, 48 pin TSSOP; PartNumber: DS90CR216MTDX; Manufacturer: National Semiconductor; PackageTopMarking: NS2ZXYTTE#*DS90CR216MTD*BBBBB; PowerWise: N; CompType: Interface IC; High-Reliability: Y; DatasheetVersion: Jun-2009; PackageVersion: revE, Apr-2003; PackageReference: MTD48; PackageDescription: Molded TSSOP, Jedec, 12.5 x 6.1 x 0.9mm Body, 48 Lead, 0.50mm Pitch; RoHS: N; PinCount: 48; Code_JEDEC: MO-153-ED; ComponentLink1Description: Manufacturer URL; ComponentLink1URL: http://www.national.com/; ComponentLink2Description: DS90CR216 Datasheet; ComponentLink2URL: http://www.national.com/ds/DS/DS90CR216.pdf; ComponentLink3Description: DS90CR216 Web Page; ComponentLink3URL: http://www.national.com/pf/DS/DS90CR216.html; ComponentLink4Description: MTD48 Package Page; ComponentLink4URL: http://www.national.com/packaging/folders/mtd48.html
footprint MTD48_N (TSSOP, 48-Leads, Body 12.5x6.1mm, Pitch 0.5mm, IPC Medium Density)
footprint MTD48_L (TSSOP, 48-Leads, Body 12.5x6.1mm, Pitch 0.5mm, IPC High Density)
footprint MTD48_M (TSSOP, 48-Leads, Body 12.5x6.1mm, Pitch 0.5mm, IPC Low Density)
pins: 1 RxOUT17 (out), 2 RxOUT18 (out), 3 GND (power), 4 RxOUT19 (out), 5 RxOUT20 (out), 6 NC, 7 LVDS GND (power), 8 RxIN0- (in), 9 RxIN0+ (in), 10 RxIN1- (in), 11 RxIN1+ (in), 12 LVDS VCC (power), 13 LVDS GND (power), 14 RxIN2- (in), 15 RxIN2+ (in), 16 RxCLKIN- (in), 17 RxCLKIN+ (in), 18 LVDS GND (power), 19 PLL GND (power), 20 PLL VCC (power), 21 PLL GND (power), 22 ~{PWR DWN} (in), 23 RxCLKOUT (out), 24 RxOUT0 (out), 25 GND (power), 26 RxOUT1 (out), 27 RxOUT2 (out), 28 VCC (power), 29 RxOUT3 (out), 30 RxOUT4 (out), 31 RxOUT5 (out), 32 GND (power), 33 RxOUT6 (out), 34 RxOUT7 (out), 35 RxOUT8 (out), 36 VCC (power), 37 RxOUT9 (out), 38 GND (power), 39 RxOUT10 (out), 40 RxOUT11 (out), 41 RxOUT12 (out), 42 VCC (power), 43 RxOUT13 (out), 44 GND (power), 45 RxOUT14 (out), 46 RxOUT15 (out), 47 RxOUT16 (out), 48 VCC (power)

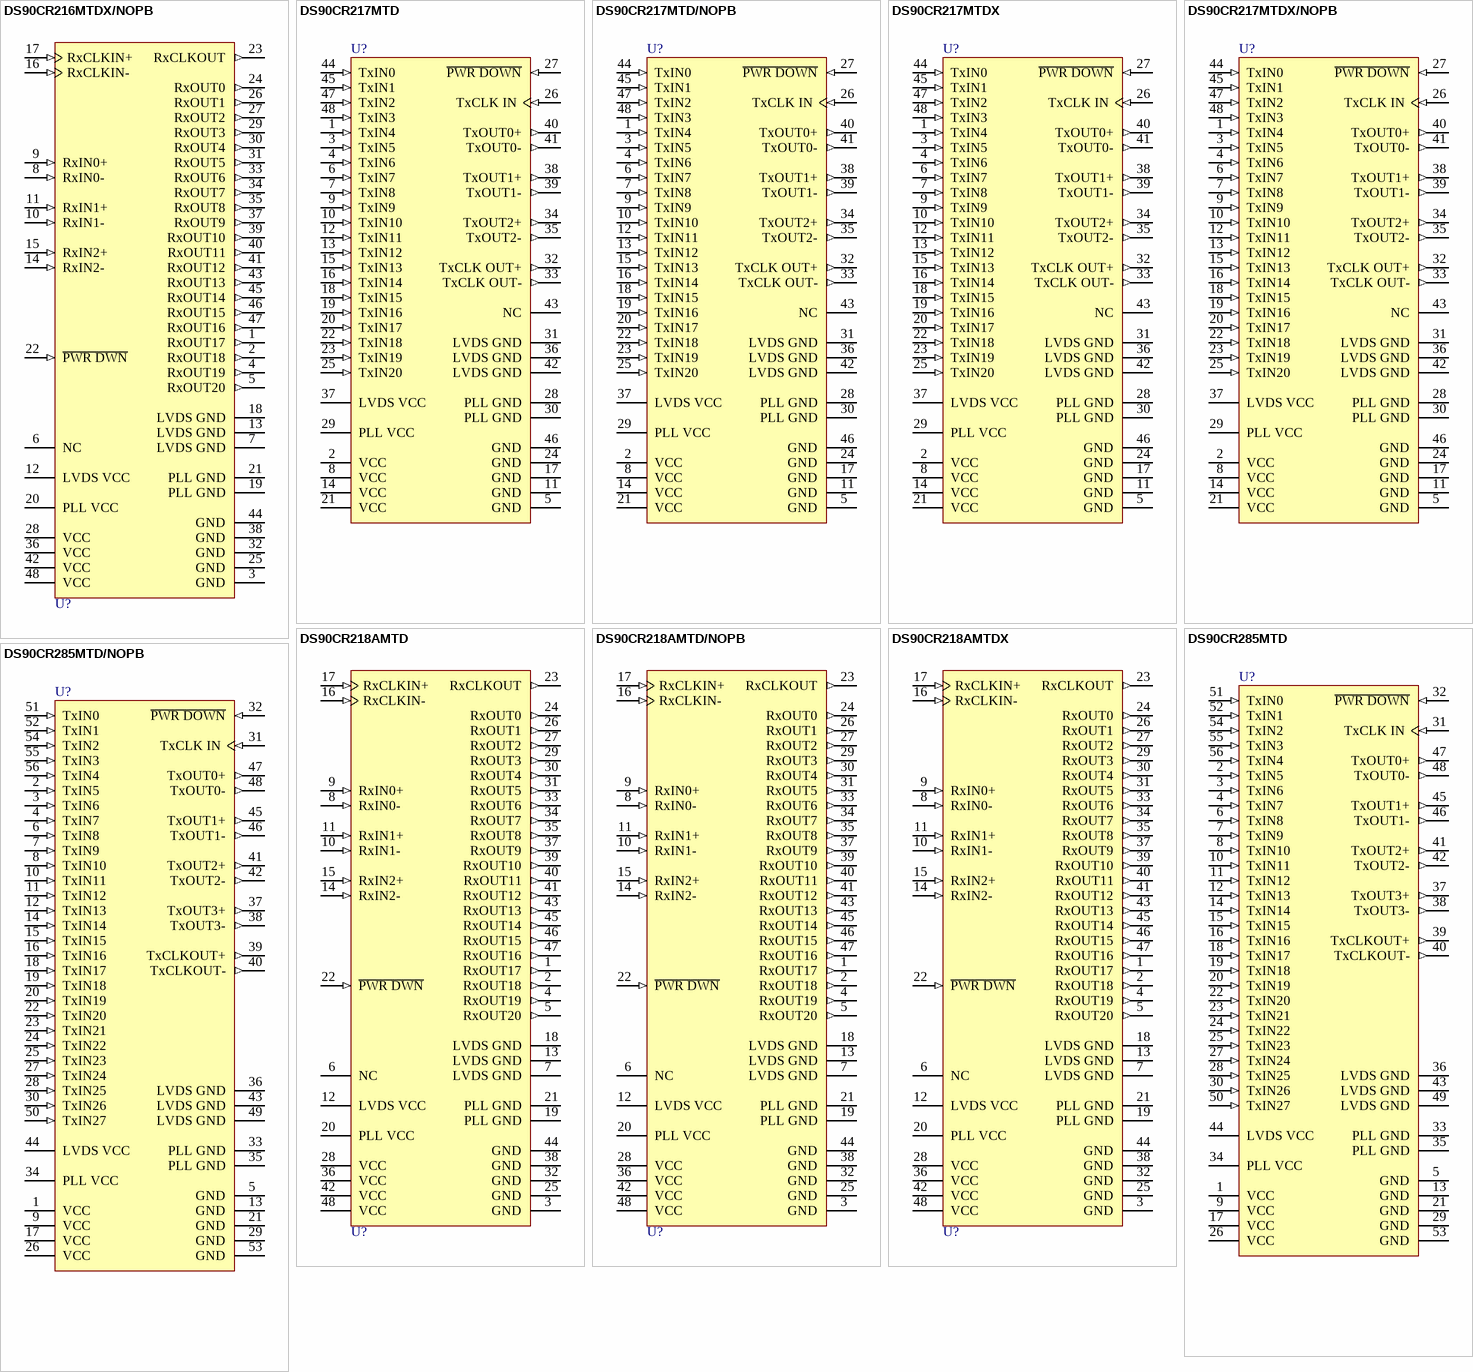
[diagram p45: symbols DS90CR216MTDX/NOPB to DS90CR285MTD/NOPB]

## DS90CR216MTDX/NOPB
designator U?
+3.3V Rising Edge Data Strobe LVDS 21-Bit Channel Link - 66 MHz, 48 pin TSSOP; PartNumber: DS90CR216MTDX/NOPB; Manufacturer: National Semiconductor; PackageTopMarking: NS2ZXYTTE#*DS90CR216MTD*BBBBB; PowerWise: N; CompType: Interface IC; High-Reliability: Y; DatasheetVersion: Jun-2009; PackageVersion: revE, Apr-2003; PackageReference: MTD48; PackageDescription: Molded TSSOP, Jedec, 12.5 x 6.1 x 0.9mm Body, 48 Lead, 0.50mm Pitch; RoHS: Y; PinCount: 48; Code_JEDEC: MO-153-ED; ComponentLink1Description: Manufacturer URL; ComponentLink1URL: http://www.national.com/; ComponentLink2Description: DS90CR216 Datasheet; ComponentLink2URL: http://www.national.com/ds/DS/DS90CR216.pdf; ComponentLink3Description: DS90CR216 Web Page; ComponentLink3URL: http://www.national.com/pf/DS/DS90CR216.html; ComponentLink4Description: MTD48 Package Page; ComponentLink4URL: http://www.national.com/packaging/folders/mtd48.html
footprint MTD48_N (TSSOP, 48-Leads, Body 12.5x6.1mm, Pitch 0.5mm, IPC Medium Density)
footprint MTD48_L (TSSOP, 48-Leads, Body 12.5x6.1mm, Pitch 0.5mm, IPC High Density)
footprint MTD48_M (TSSOP, 48-Leads, Body 12.5x6.1mm, Pitch 0.5mm, IPC Low Density)
pins: 1 RxOUT17 (out), 2 RxOUT18 (out), 3 GND (power), 4 RxOUT19 (out), 5 RxOUT20 (out), 6 NC, 7 LVDS GND (power), 8 RxIN0- (in), 9 RxIN0+ (in), 10 RxIN1- (in), 11 RxIN1+ (in), 12 LVDS VCC (power), 13 LVDS GND (power), 14 RxIN2- (in), 15 RxIN2+ (in), 16 RxCLKIN- (in), 17 RxCLKIN+ (in), 18 LVDS GND (power), 19 PLL GND (power), 20 PLL VCC (power), 21 PLL GND (power), 22 ~{PWR DWN} (in), 23 RxCLKOUT (out), 24 RxOUT0 (out), 25 GND (power), 26 RxOUT1 (out), 27 RxOUT2 (out), 28 VCC (power), 29 RxOUT3 (out), 30 RxOUT4 (out), 31 RxOUT5 (out), 32 GND (power), 33 RxOUT6 (out), 34 RxOUT7 (out), 35 RxOUT8 (out), 36 VCC (power), 37 RxOUT9 (out), 38 GND (power), 39 RxOUT10 (out), 40 RxOUT11 (out), 41 RxOUT12 (out), 42 VCC (power), 43 RxOUT13 (out), 44 GND (power), 45 RxOUT14 (out), 46 RxOUT15 (out), 47 RxOUT16 (out), 48 VCC (power)

## DS90CR217MTD
designator U?
+3.3V Rising Edge Data Strobe LVDS 21-Bit Channel Link Transmitter - 85 MHz, 48-pin TSSOP; PartNumber: DS90CR217MTD; Manufacturer: National Semiconductor; PackageTopMarking: NS2ZXYTTE#*DS90CR217MTD*BBBBB; PowerWise: N; CompType: Interface IC; High-Reliability: Y; DatasheetVersion: Oct-2006; PackageVersion: revE, Apr-2003; PackageReference: MTD48; PackageDescription: Molded TSSOP, Jedec, 12.5 x 6.1 x 0.9mm Body, 48 Lead, 0.50mm Pitch; RoHS: N; PinCount: 48; Code_JEDEC: MO-153-ED; ComponentLink1Description: Manufacturer URL; ComponentLink1URL: http://www.national.com/; ComponentLink2Description: DS90CR217 Datasheet; ComponentLink2URL: http://www.national.com/ds/DS/DS90CR217.pdf; ComponentLink3Description: DS90CR217 Web Page; ComponentLink3URL: http://www.national.com/pf/DS/DS90CR217.html; ComponentLink4Description: MTD48 Package Page; ComponentLink4URL: http://www.national.com/packaging/folders/mtd48.html
footprint MTD48_N (TSSOP, 48-Leads, Body 12.5x6.1mm, Pitch 0.5mm, IPC Medium Density)
footprint MTD48_L (TSSOP, 48-Leads, Body 12.5x6.1mm, Pitch 0.5mm, IPC High Density)
footprint MTD48_M (TSSOP, 48-Leads, Body 12.5x6.1mm, Pitch 0.5mm, IPC Low Density)
pins: 1 TxIN4 (in), 2 VCC (power), 3 TxIN5 (in), 4 TxIN6 (in), 5 GND (power), 6 TxIN7 (in), 7 TxIN8 (in), 8 VCC (power), 9 TxIN9 (in), 10 TxIN10 (in), 11 GND (power), 12 TxIN11 (in), 13 TxIN12 (in), 14 VCC (power), 15 TxIN13 (in), 16 TxIN14 (in), 17 GND (power), 18 TxIN15 (in), 19 TxIN16 (in), 20 TxIN17 (in), 21 VCC (power), 22 TxIN18 (in), 23 TxIN19 (in), 24 GND (power), 25 TxIN20 (in), 26 TxCLK IN (in), 27 ~{PWR DOWN} (in), 28 PLL GND (power), 29 PLL VCC (power), 30 PLL GND (power), 31 LVDS GND (power), 32 TxCLK OUT+ (out), 33 TxCLK OUT- (out), 34 TxOUT2+ (out), 35 TxOUT2- (out), 36 LVDS GND (power), 37 LVDS VCC (power), 38 TxOUT1+ (out), 39 TxOUT1- (out), 40 TxOUT0+ (out), 41 TxOUT0- (out), 42 LVDS GND (power), 43 NC, 44 TxIN0 (in), 45 TxIN1 (in), 46 GND (power), 47 TxIN2 (in), 48 TxIN3 (in)

## DS90CR217MTD/NOPB
designator U?
+3.3V Rising Edge Data Strobe LVDS 21-Bit Channel Link Transmitter - 85 MHz, 48-pin TSSOP, Pb-Free; PartNumber: DS90CR217MTD/NOPB; Manufacturer: National Semiconductor; PackageTopMarking: NS2ZXYTTE#*DS90CR217MTD*BBBBB; PowerWise: N; CompType: Interface IC; High-Reliability: Y; DatasheetVersion: Oct-2006; PackageVersion: revE, Apr-2003; PackageReference: MTD48; PackageDescription: Molded TSSOP, Jedec, 12.5 x 6.1 x 0.9mm Body, 48 Lead, 0.50mm Pitch; RoHS: Y; PinCount: 48; Code_JEDEC: MO-153-ED; ComponentLink1Description: Manufacturer URL; ComponentLink1URL: http://www.national.com/; ComponentLink2Description: DS90CR217 Datasheet; ComponentLink2URL: http://www.national.com/ds/DS/DS90CR217.pdf; ComponentLink3Description: DS90CR217 Web Page; ComponentLink3URL: http://www.national.com/pf/DS/DS90CR217.html; ComponentLink4Description: MTD48 Package Page; ComponentLink4URL: http://www.national.com/packaging/folders/mtd48.html
footprint MTD48_N (TSSOP, 48-Leads, Body 12.5x6.1mm, Pitch 0.5mm, IPC Medium Density)
footprint MTD48_L (TSSOP, 48-Leads, Body 12.5x6.1mm, Pitch 0.5mm, IPC High Density)
footprint MTD48_M (TSSOP, 48-Leads, Body 12.5x6.1mm, Pitch 0.5mm, IPC Low Density)
pins: 1 TxIN4 (in), 2 VCC (power), 3 TxIN5 (in), 4 TxIN6 (in), 5 GND (power), 6 TxIN7 (in), 7 TxIN8 (in), 8 VCC (power), 9 TxIN9 (in), 10 TxIN10 (in), 11 GND (power), 12 TxIN11 (in), 13 TxIN12 (in), 14 VCC (power), 15 TxIN13 (in), 16 TxIN14 (in), 17 GND (power), 18 TxIN15 (in), 19 TxIN16 (in), 20 TxIN17 (in), 21 VCC (power), 22 TxIN18 (in), 23 TxIN19 (in), 24 GND (power), 25 TxIN20 (in), 26 TxCLK IN (in), 27 ~{PWR DOWN} (in), 28 PLL GND (power), 29 PLL VCC (power), 30 PLL GND (power), 31 LVDS GND (power), 32 TxCLK OUT+ (out), 33 TxCLK OUT- (out), 34 TxOUT2+ (out), 35 TxOUT2- (out), 36 LVDS GND (power), 37 LVDS VCC (power), 38 TxOUT1+ (out), 39 TxOUT1- (out), 40 TxOUT0+ (out), 41 TxOUT0- (out), 42 LVDS GND (power), 43 NC, 44 TxIN0 (in), 45 TxIN1 (in), 46 GND (power), 47 TxIN2 (in), 48 TxIN3 (in)

## DS90CR217MTDX
designator U?
+3.3V Rising Edge Data Strobe LVDS 21-Bit Channel Link Transmitter - 85 MHz, 48-pin TSSOP; PartNumber: DS90CR217MTDX; Manufacturer: National Semiconductor; PackageTopMarking: NS2ZXYTTE#*DS90CR217MTD*BBBBB; PowerWise: N; CompType: Interface IC; High-Reliability: Y; DatasheetVersion: Oct-2006; PackageVersion: revE, Apr-2003; PackageReference: MTD48; PackageDescription: Molded TSSOP, Jedec, 12.5 x 6.1 x 0.9mm Body, 48 Lead, 0.50mm Pitch; RoHS: N; PinCount: 48; Code_JEDEC: MO-153-ED; ComponentLink1Description: Manufacturer URL; ComponentLink1URL: http://www.national.com/; ComponentLink2Description: DS90CR217 Datasheet; ComponentLink2URL: http://www.national.com/ds/DS/DS90CR217.pdf; ComponentLink3Description: DS90CR217 Web Page; ComponentLink3URL: http://www.national.com/pf/DS/DS90CR217.html; ComponentLink4Description: MTD48 Package Page; ComponentLink4URL: http://www.national.com/packaging/folders/mtd48.html
footprint MTD48_N (TSSOP, 48-Leads, Body 12.5x6.1mm, Pitch 0.5mm, IPC Medium Density)
footprint MTD48_L (TSSOP, 48-Leads, Body 12.5x6.1mm, Pitch 0.5mm, IPC High Density)
footprint MTD48_M (TSSOP, 48-Leads, Body 12.5x6.1mm, Pitch 0.5mm, IPC Low Density)
pins: 1 TxIN4 (in), 2 VCC (power), 3 TxIN5 (in), 4 TxIN6 (in), 5 GND (power), 6 TxIN7 (in), 7 TxIN8 (in), 8 VCC (power), 9 TxIN9 (in), 10 TxIN10 (in), 11 GND (power), 12 TxIN11 (in), 13 TxIN12 (in), 14 VCC (power), 15 TxIN13 (in), 16 TxIN14 (in), 17 GND (power), 18 TxIN15 (in), 19 TxIN16 (in), 20 TxIN17 (in), 21 VCC (power), 22 TxIN18 (in), 23 TxIN19 (in), 24 GND (power), 25 TxIN20 (in), 26 TxCLK IN (in), 27 ~{PWR DOWN} (in), 28 PLL GND (power), 29 PLL VCC (power), 30 PLL GND (power), 31 LVDS GND (power), 32 TxCLK OUT+ (out), 33 TxCLK OUT- (out), 34 TxOUT2+ (out), 35 TxOUT2- (out), 36 LVDS GND (power), 37 LVDS VCC (power), 38 TxOUT1+ (out), 39 TxOUT1- (out), 40 TxOUT0+ (out), 41 TxOUT0- (out), 42 LVDS GND (power), 43 NC, 44 TxIN0 (in), 45 TxIN1 (in), 46 GND (power), 47 TxIN2 (in), 48 TxIN3 (in)

## DS90CR217MTDX/NOPB
designator U?
+3.3V Rising Edge Data Strobe LVDS 21-Bit Channel Link Transmitter - 85 MHz, 48-pin TSSOP, Pb-Free; PartNumber: DS90CR217MTDX/NOPB; Manufacturer: National Semiconductor; PackageTopMarking: NS2ZXYTTE#*DS90CR217MTD*BBBBB; PowerWise: N; CompType: Interface IC; High-Reliability: Y; DatasheetVersion: Oct-2006; PackageVersion: revE, Apr-2003; PackageReference: MTD48; PackageDescription: Molded TSSOP, Jedec, 12.5 x 6.1 x 0.9mm Body, 48 Lead, 0.50mm Pitch; RoHS: Y; PinCount: 48; Code_JEDEC: MO-153-ED; ComponentLink1Description: Manufacturer URL; ComponentLink1URL: http://www.national.com/; ComponentLink2Description: DS90CR217 Datasheet; ComponentLink2URL: http://www.national.com/ds/DS/DS90CR217.pdf; ComponentLink3Description: DS90CR217 Web Page; ComponentLink3URL: http://www.national.com/pf/DS/DS90CR217.html; ComponentLink4Description: MTD48 Package Page; ComponentLink4URL: http://www.national.com/packaging/folders/mtd48.html
footprint MTD48_N (TSSOP, 48-Leads, Body 12.5x6.1mm, Pitch 0.5mm, IPC Medium Density)
footprint MTD48_L (TSSOP, 48-Leads, Body 12.5x6.1mm, Pitch 0.5mm, IPC High Density)
footprint MTD48_M (TSSOP, 48-Leads, Body 12.5x6.1mm, Pitch 0.5mm, IPC Low Density)
pins: 1 TxIN4 (in), 2 VCC (power), 3 TxIN5 (in), 4 TxIN6 (in), 5 GND (power), 6 TxIN7 (in), 7 TxIN8 (in), 8 VCC (power), 9 TxIN9 (in), 10 TxIN10 (in), 11 GND (power), 12 TxIN11 (in), 13 TxIN12 (in), 14 VCC (power), 15 TxIN13 (in), 16 TxIN14 (in), 17 GND (power), 18 TxIN15 (in), 19 TxIN16 (in), 20 TxIN17 (in), 21 VCC (power), 22 TxIN18 (in), 23 TxIN19 (in), 24 GND (power), 25 TxIN20 (in), 26 TxCLK IN (in), 27 ~{PWR DOWN} (in), 28 PLL GND (power), 29 PLL VCC (power), 30 PLL GND (power), 31 LVDS GND (power), 32 TxCLK OUT+ (out), 33 TxCLK OUT- (out), 34 TxOUT2+ (out), 35 TxOUT2- (out), 36 LVDS GND (power), 37 LVDS VCC (power), 38 TxOUT1+ (out), 39 TxOUT1- (out), 40 TxOUT0+ (out), 41 TxOUT0- (out), 42 LVDS GND (power), 43 NC, 44 TxIN0 (in), 45 TxIN1 (in), 46 GND (power), 47 TxIN2 (in), 48 TxIN3 (in)

## DS90CR218AMTD
designator U?
+3.3V Rising Edge Data Strobe LVDS 21-Bit Channel Link Receiver - 85 MHz, 48-pin TSSOP; PartNumber: DS90CR218AMTD; Manufacturer: National Semiconductor; PackageTopMarking: NSUZXYTTE#*DS90CR218AMTD*BBBBB; PowerWise: N; CompType: Interface IC; High-Reliability: Y; DatasheetVersion: Oct-2006; PackageVersion: revE, Apr-2003; PackageReference: MTD48; PackageDescription: Molded TSSOP, Jedec, 12.5 x 6.1 x 0.9mm Body, 48 Lead, 0.50mm Pitch; RoHS: N; PinCount: 48; Code_JEDEC: MO-153-ED; ComponentLink1Description: Manufacturer URL; ComponentLink1URL: http://www.national.com/; ComponentLink2Description: DS90CR218A Datasheet; ComponentLink2URL: http://www.national.com/ds/DS/DS90CR218A.pdf; ComponentLink3Description: DS90CR218A Web Page; ComponentLink3URL: http://www.national.com/pf/DS/DS90CR218A.html; ComponentLink4Description: MTD48 Package Page; ComponentLink4URL: http://www.national.com/packaging/folders/mtd48.html
footprint MTD48_N (TSSOP, 48-Leads, Body 12.5x6.1mm, Pitch 0.5mm, IPC Medium Density)
footprint MTD48_L (TSSOP, 48-Leads, Body 12.5x6.1mm, Pitch 0.5mm, IPC High Density)
footprint MTD48_M (TSSOP, 48-Leads, Body 12.5x6.1mm, Pitch 0.5mm, IPC Low Density)
pins: 1 RxOUT17 (out), 2 RxOUT18 (out), 3 GND (power), 4 RxOUT19 (out), 5 RxOUT20 (out), 6 NC, 7 LVDS GND (power), 8 RxIN0- (in), 9 RxIN0+ (in), 10 RxIN1- (in), 11 RxIN1+ (in), 12 LVDS VCC (power), 13 LVDS GND (power), 14 RxIN2- (in), 15 RxIN2+ (in), 16 RxCLKIN- (in), 17 RxCLKIN+ (in), 18 LVDS GND (power), 19 PLL GND (power), 20 PLL VCC (power), 21 PLL GND (power), 22 ~{PWR DWN} (in), 23 RxCLKOUT (out), 24 RxOUT0 (out), 25 GND (power), 26 RxOUT1 (out), 27 RxOUT2 (out), 28 VCC (power), 29 RxOUT3 (out), 30 RxOUT4 (out), 31 RxOUT5 (out), 32 GND (power), 33 RxOUT6 (out), 34 RxOUT7 (out), 35 RxOUT8 (out), 36 VCC (power), 37 RxOUT9 (out), 38 GND (power), 39 RxOUT10 (out), 40 RxOUT11 (out), 41 RxOUT12 (out), 42 VCC (power), 43 RxOUT13 (out), 44 GND (power), 45 RxOUT14 (out), 46 RxOUT15 (out), 47 RxOUT16 (out), 48 VCC (power)

## DS90CR218AMTD/NOPB
designator U?
+3.3V Rising Edge Data Strobe LVDS 21-Bit Channel Link Receiver - 85 MHz, 48-pin TSSOP, Pb-Free; PartNumber: DS90CR218AMTD/NOPB; Manufacturer: National Semiconductor; PackageTopMarking: NSUZXYTTE#*DS90CR218AMTD*BBBBB; PowerWise: N; CompType: Interface IC; High-Reliability: Y; DatasheetVersion: Oct-2006; PackageVersion: revE, Apr-2003; PackageReference: MTD48; PackageDescription: Molded TSSOP, Jedec, 12.5 x 6.1 x 0.9mm Body, 48 Lead, 0.50mm Pitch; RoHS: Y; PinCount: 48; Code_JEDEC: MO-153-ED; ComponentLink1Description: Manufacturer URL; ComponentLink1URL: http://www.national.com/; ComponentLink2Description: DS90CR218A Datasheet; ComponentLink2URL: http://www.national.com/ds/DS/DS90CR218A.pdf; ComponentLink3Description: DS90CR218A Web Page; ComponentLink3URL: http://www.national.com/pf/DS/DS90CR218A.html; ComponentLink4Description: MTD48 Package Page; ComponentLink4URL: http://www.national.com/packaging/folders/mtd48.html
footprint MTD48_N (TSSOP, 48-Leads, Body 12.5x6.1mm, Pitch 0.5mm, IPC Medium Density)
footprint MTD48_L (TSSOP, 48-Leads, Body 12.5x6.1mm, Pitch 0.5mm, IPC High Density)
footprint MTD48_M (TSSOP, 48-Leads, Body 12.5x6.1mm, Pitch 0.5mm, IPC Low Density)
pins: 1 RxOUT17 (out), 2 RxOUT18 (out), 3 GND (power), 4 RxOUT19 (out), 5 RxOUT20 (out), 6 NC, 7 LVDS GND (power), 8 RxIN0- (in), 9 RxIN0+ (in), 10 RxIN1- (in), 11 RxIN1+ (in), 12 LVDS VCC (power), 13 LVDS GND (power), 14 RxIN2- (in), 15 RxIN2+ (in), 16 RxCLKIN- (in), 17 RxCLKIN+ (in), 18 LVDS GND (power), 19 PLL GND (power), 20 PLL VCC (power), 21 PLL GND (power), 22 ~{PWR DWN} (in), 23 RxCLKOUT (out), 24 RxOUT0 (out), 25 GND (power), 26 RxOUT1 (out), 27 RxOUT2 (out), 28 VCC (power), 29 RxOUT3 (out), 30 RxOUT4 (out), 31 RxOUT5 (out), 32 GND (power), 33 RxOUT6 (out), 34 RxOUT7 (out), 35 RxOUT8 (out), 36 VCC (power), 37 RxOUT9 (out), 38 GND (power), 39 RxOUT10 (out), 40 RxOUT11 (out), 41 RxOUT12 (out), 42 VCC (power), 43 RxOUT13 (out), 44 GND (power), 45 RxOUT14 (out), 46 RxOUT15 (out), 47 RxOUT16 (out), 48 VCC (power)

## DS90CR218AMTDX
designator U?
+3.3V Rising Edge Data Strobe LVDS 21-Bit Channel Link Receiver - 85 MHz, 48-pin TSSOP; PartNumber: DS90CR218AMTDX; Manufacturer: National Semiconductor; PackageTopMarking: NSUZXYTTE#*DS90CR218AMTD*BBBBB; PowerWise: N; CompType: Interface IC; High-Reliability: Y; DatasheetVersion: Oct-2006; PackageVersion: revE, Apr-2003; PackageReference: MTD48; PackageDescription: Molded TSSOP, Jedec, 12.5 x 6.1 x 0.9mm Body, 48 Lead, 0.50mm Pitch; RoHS: N; PinCount: 48; Code_JEDEC: MO-153-ED; ComponentLink1Description: Manufacturer URL; ComponentLink1URL: http://www.national.com/; ComponentLink2Description: DS90CR218A Datasheet; ComponentLink2URL: http://www.national.com/ds/DS/DS90CR218A.pdf; ComponentLink3Description: DS90CR218A Web Page; ComponentLink3URL: http://www.national.com/pf/DS/DS90CR218A.html; ComponentLink4Description: MTD48 Package Page; ComponentLink4URL: http://www.national.com/packaging/folders/mtd48.html
footprint MTD48_N (TSSOP, 48-Leads, Body 12.5x6.1mm, Pitch 0.5mm, IPC Medium Density)
footprint MTD48_L (TSSOP, 48-Leads, Body 12.5x6.1mm, Pitch 0.5mm, IPC High Density)
footprint MTD48_M (TSSOP, 48-Leads, Body 12.5x6.1mm, Pitch 0.5mm, IPC Low Density)
pins: 1 RxOUT17 (out), 2 RxOUT18 (out), 3 GND (power), 4 RxOUT19 (out), 5 RxOUT20 (out), 6 NC, 7 LVDS GND (power), 8 RxIN0- (in), 9 RxIN0+ (in), 10 RxIN1- (in), 11 RxIN1+ (in), 12 LVDS VCC (power), 13 LVDS GND (power), 14 RxIN2- (in), 15 RxIN2+ (in), 16 RxCLKIN- (in), 17 RxCLKIN+ (in), 18 LVDS GND (power), 19 PLL GND (power), 20 PLL VCC (power), 21 PLL GND (power), 22 ~{PWR DWN} (in), 23 RxCLKOUT (out), 24 RxOUT0 (out), 25 GND (power), 26 RxOUT1 (out), 27 RxOUT2 (out), 28 VCC (power), 29 RxOUT3 (out), 30 RxOUT4 (out), 31 RxOUT5 (out), 32 GND (power), 33 RxOUT6 (out), 34 RxOUT7 (out), 35 RxOUT8 (out), 36 VCC (power), 37 RxOUT9 (out), 38 GND (power), 39 RxOUT10 (out), 40 RxOUT11 (out), 41 RxOUT12 (out), 42 VCC (power), 43 RxOUT13 (out), 44 GND (power), 45 RxOUT14 (out), 46 RxOUT15 (out), 47 RxOUT16 (out), 48 VCC (power)